# EAGLE library part 74AHC125 (library NASA_LIB)
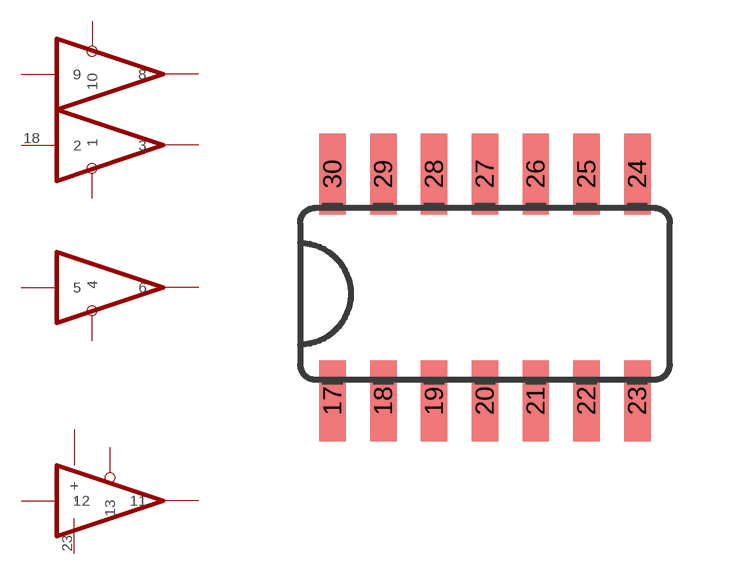
[diagram p1: symbol with the pads of SO14S; footprint SO14S]

Designator prefix -

## 74AHC125  [SO14S]
17  1
18  2
19  3
20  4
21  5
22  6
23  -  pwr
24  8
25  9
26  10
27  11
28  12
29  13
30  +  pwr

## Footprint SO14S (pad centres in mm)
smd 0.66 x 2.032: 17 -4.445,-2.68; 18 -3.175,-2.68; 19 -1.905,-2.68; 20 -0.635,-2.68; 21 0.635,-2.68; 22 1.905,-2.68; 23 3.175,-2.68; 24 3.175,2.997; 25 1.905,2.997; 26 0.635,2.997; 27 -0.635,2.997; 28 -1.905,2.997; 29 -3.175,2.997; 30 -4.445,2.997